# Altium footprint library MICRO-USB-CONNECTOR.PcbLib: 1 footprints
Each footprint in its own frame and in the unit in brackets; x right, y up, seen from the top. Pads: shape width x height; smd on the part's side, far side on the other; paste and mask are expansions set on the pad; w line width, h text height; cw(c..) or ccw(c..) is an arc to the next point about the centre after c.
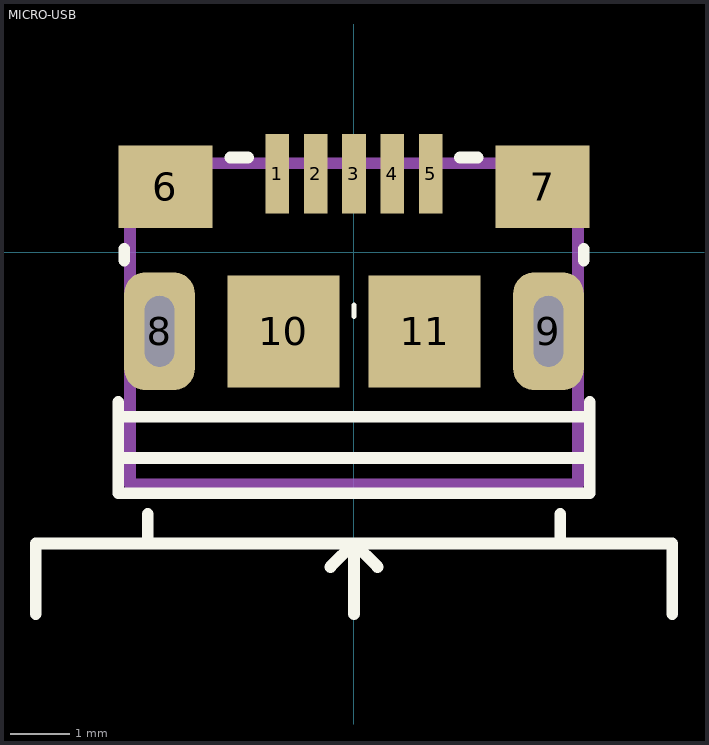
[diagram p0: the footprint, top view; thin cyan lines are the x and y axes]

## MICRO-USB [mm]
pads (11):
  rect 0.4x1.35 smd mask+0.05: 1(-1.3,1.338) 2(-0.65,1.338) 3(0,1.338) 4(0.65,1.338) 5(1.3,1.338)
  rect 1.6x1.4 smd: 6(-3.2,1.113) 7(3.2,1.113)
  rrect60% 1.2x2 hole 0.5 slot 1.2 at 90 deg: 8(-3.3,-1.338) 9(3.3,-1.338)
  rect 1.9x1.9 smd paste-10: 10(-1.2,-1.338) 11(1.2,-1.338)
Top Overlay:
  lines w0.08: 0,-1.088 0,-0.888
  lines w0.2: -5.4,-6.137 -5.4,-4.937 5.4,-4.937 5.4,-6.137 ; -4,-3.488 4,-3.488 ; -4,-2.788 4,-2.788 ; -4,-2.538 -4,-4.088 4,-4.088 4,-2.538 ; -3.9,-0.138 -3.9,0.062 ; -3.5,-4.937 -3.5,-4.437 ; -2.1,1.612 -1.8,1.612 ; -0.4,-5.337 0,-4.937 ; 0,-6.137 0,-4.937 ; 0.4,-5.337 0,-4.937 ; 1.8,1.612 2.1,1.612 ; 3.5,-4.937 3.5,-4.437 ; 3.9,-0.138 3.9,0.062
Mechanical 29:
  lines w0.2: -3.8,-3.938 -3.8,1.512 3.8,1.512 3.8,-3.938 -3.8,-3.938
  text ".Designator" at -2,-2.038 h1.52
3D body "10118193.step": height 2.85, standoff -0.75, extent -3.929,-4.098 3.928,1.563